# EAGLE library part 62000611121 (library Board_to_Board_Connectors_rev15d)
WR-PHD 2.00mm Pin Header, 6 Pins=>Code : Con_BTB_PHD_2.00_1_THT_62000611121 <http://katalog.we-online.de/media/images/eican/Con_BTB_PHD_2.00_1_THT_6200xx11121_pf2.jpg> Details see: http://katalog.we-online.de/en/em/620_0xx_111_21 Created 2014-06-03, Karrer Zheng 2014 (C) Würth Elektronik
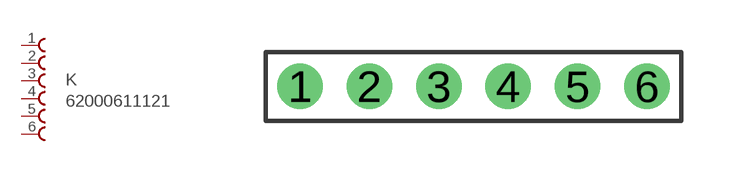
[diagram p229: symbol with the pads of 62000611121; footprint 62000611121]

Designator prefix K

## 62000611121  [62000611121]
1  1  pas
2  2  pas
3  3  pas
4  4  pas
5  5  pas
6  6  pas

## Footprint 62000611121 (pad centres in mm)
WR-PHD 2.00mm Pin Header, 6 Pins
drill 0.8: 1 -5,0; 2 -3,0; 3 -1,0; 4 1,0; 5 3,0; 6 5,0